# Altium footprint library ESP_32.PcbLib: 4 footprints
Each footprint in its own frame and in the unit in brackets; x right, y up, seen from the top. Pads: shape width x height; smd on the part's side, far side on the other; paste and mask are expansions set on the pad; w line width, h text height; cw(c..) or ccw(c..) is an arc to the next point about the centre after c.
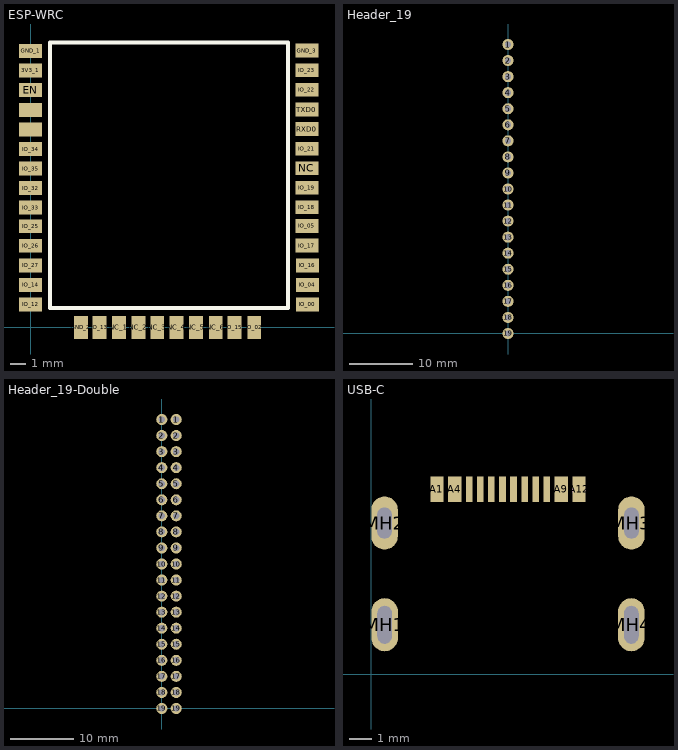
[diagram p0: the footprints below, top view; thin cyan lines are the x and y axes]

## ESP-WRC [mm]
pads (38):
  rect 1.5x0.9 / inner rect 1.5x0.9 / far side rect 0x0 all layers, no hole: 3V3_1(0,16.733) EN(0,15.458) GND_1(0,18.008) GND_3(18,18.026) IO_00(18.036,1.5) IO_04(18.024,2.764) IO_05(18,6.609) IO_12(0,1.5) IO_14(0,2.764) IO_16(18.024,4.04) IO_17(18,5.333) IO_18(18,7.825) IO_19(18,9.095) IO_21(18,11.635) IO_22(18,15.476) IO_23(18,16.751) IO_25(0,6.59) IO_26(0,5.315) IO_27(0,4.04) IO_32(0,9.076) IO_33(0,7.806) IO_34(0,11.617) IO_35(0.004,10.346) NC(18.004,10.365) RXD0(18,12.91) Sensor_VN(0,12.892) Sensor_VP(0,14.167) TXD0(18,14.185)
  rect 0.9x1.5 / inner rect 0.9x1.5 / far side rect 0x0 all layers, no hole: GND_2(3.285,0) IO_02(14.57,0) IO_13(4.494,0) IO_15(13.283,0) NC_1(5.752,0) NC_2(7.022,0.003) NC_3(8.255,0) NC_4(9.517,0) NC_5(10.774,0) NC_6(12.065,0)
Top Overlay:
  lines w0.254: 1.27,1.27 16.764,1.27 16.764,18.542 1.27,18.542 1.27,1.27
  text ".Designator" at 1.526,10.16 h1.52
3D body "ESP32-WROOM-32D.step": height 2.6, standoff -0.01, extent 0.05,-0.005 17.95,25.45

## Header_19 [mm] "19 Polig"
pads (19):
  round 1.75 hole 1: 1(0,45.72) 2(0,43.18) 3(0,40.64) 4(0,38.1) 5(0,35.56) 6(0,33.02) 7(0,30.48) 8(0,27.94) 9(0,25.4) 10(0,22.86) 11(0,20.32) 12(0,17.78) 13(0,15.24) 14(0,12.7) 15(0,10.16) 16(0,7.62) 17(0,5.08) 18(0,2.54) 19(0,0)

## Header_19-Double [mm] "19 Polig"
pads (38):
  round 1.75 hole 1: 1(0,45.72) 1(2.286,45.72) 2(0,43.18) 2(2.286,43.18) 3(0,40.64) 3(2.286,40.64) 4(0,38.1) 4(2.286,38.1) 5(0,35.56) 5(2.286,35.56) 6(0,33.02) 6(2.286,33.02) 7(0,30.48) 7(2.286,30.48) 8(0,27.94) 8(2.286,27.94) 9(0,25.4) 9(2.286,25.4) 10(0,22.86) 10(2.286,22.86) 11(0,20.32) 11(2.286,20.32) 12(0,17.78) 12(2.286,17.78) 13(0,15.24) 13(2.286,15.24) 14(0,12.7) 14(2.286,12.7) 15(0,10.16) 15(2.286,10.16) 16(0,7.62) 16(2.286,7.62) 17(0,5.08) 17(2.286,5.08) 18(0,2.54) 18(2.286,2.54) 19(0,0) 19(2.286,0)

## USB-C [mm] "BTC-TC16-32"
pads (16):
  rect 0.6x1.15 smd: A1(2.961,8.36) A4(3.761,8.36) A9(8.581,8.36) A12(9.381,8.36)
  rect 0.3x1.15 smd: A5(4.921,8.36) A6(5.921,8.36) A7(6.421,8.358) A8(7.421,8.36) B5(7.921,8.36) B6(6.921,8.36) B7(5.421,8.358) B8(4.421,8.36)
  oval 1.2x2.4 hole 0.65 slot 1.7 at 90 deg: MH1(0.596,2.24) MH4(11.746,2.24)
  oval 1.2x2.4 hole 0.65 slot 1.4 at 90 deg: MH2(0.591,6.84) MH3(11.751,6.84)
Top Paste:
  region: 11.151,7.44 11.151,7.559 11.242,7.78 11.411,7.949 11.632,8.04 11.87,8.04 12.091,7.949 12.26,7.78 12.351,7.559 12.351,7.44 12.351,6.24 12.351,6.121 12.26,5.9 12.091,5.731 11.87,5.64 11.632,5.64 11.411,5.731 11.242,5.9 11.151,6.121 11.151,6.24
  region: 11.151,2.84 11.151,2.959 11.242,3.18 11.411,3.349 11.632,3.44 11.87,3.44 12.091,3.349 12.26,3.18 12.351,2.959 12.351,2.84 12.351,1.64 12.351,1.521 12.26,1.3 12.091,1.131 11.87,1.04 11.632,1.04 11.411,1.131 11.242,1.3 11.151,1.521 11.151,1.64
  region: -0.009,2.84 -0.009,2.959 0.082,3.18 0.251,3.349 0.472,3.44 0.71,3.44 0.931,3.349 1.1,3.18 1.191,2.959 1.191,2.84 1.191,1.64 1.191,1.521 1.1,1.3 0.931,1.131 0.71,1.04 0.472,1.04 0.251,1.131 0.082,1.3 -0.009,1.521 -0.009,1.64
  region: -0.009,7.44 -0.009,7.559 0.082,7.78 0.251,7.949 0.472,8.04 0.71,8.04 0.931,7.949 1.1,7.78 1.191,7.559 1.191,7.44 1.191,6.24 1.191,6.121 1.1,5.9 0.931,5.731 0.71,5.64 0.472,5.64 0.251,5.731 0.082,5.9 -0.009,6.121 -0.009,6.24
  region: 3.261,7.785 2.661,7.785 2.661,8.935 3.261,8.935
  region: 4.061,7.785 3.461,7.785 3.461,8.935 4.061,8.935
  region: 9.081,8.935 9.681,8.935 9.681,7.785 9.081,7.785
  region: 8.281,8.935 8.881,8.935 8.881,7.785 8.281,7.785
  region: 7.771,8.935 8.071,8.935 8.071,7.785 7.771,7.785
  region: 7.271,8.935 7.571,8.935 7.571,7.785 7.271,7.785
  region: 6.771,8.935 7.071,8.935 7.071,7.785 6.771,7.785
  region: 6.271,8.933 6.571,8.933 6.571,7.783 6.271,7.783
  region: 5.771,8.935 6.071,8.935 6.071,7.785 5.771,7.785
  region: 5.271,8.933 5.571,8.933 5.571,7.783 5.271,7.783
  region: 4.771,8.935 5.071,8.935 5.071,7.785 4.771,7.785
  region: 4.271,8.935 4.571,8.935 4.571,7.785 4.271,7.785
Mechanical 15:
  circle w0.3: c9.371,8.315 r0.15
3D body "HRO TYPE-C-31-M-14.step": height 2.06, standoff -1.1, extent 0.508,0.038 11.958,8.598